# Altium footprint library ST Microcontroller 8-Bit.PcbLib: 97 footprints (part 2 of 7)
Each footprint in its own frame and in the unit in brackets; x right, y up, seen from the top. Pads: shape width x height; smd on the part's side, far side on the other; paste and mask are expansions set on the pad; w line width, h text height; cw(c..) or ccw(c..) is an arc to the next point about the centre after c.
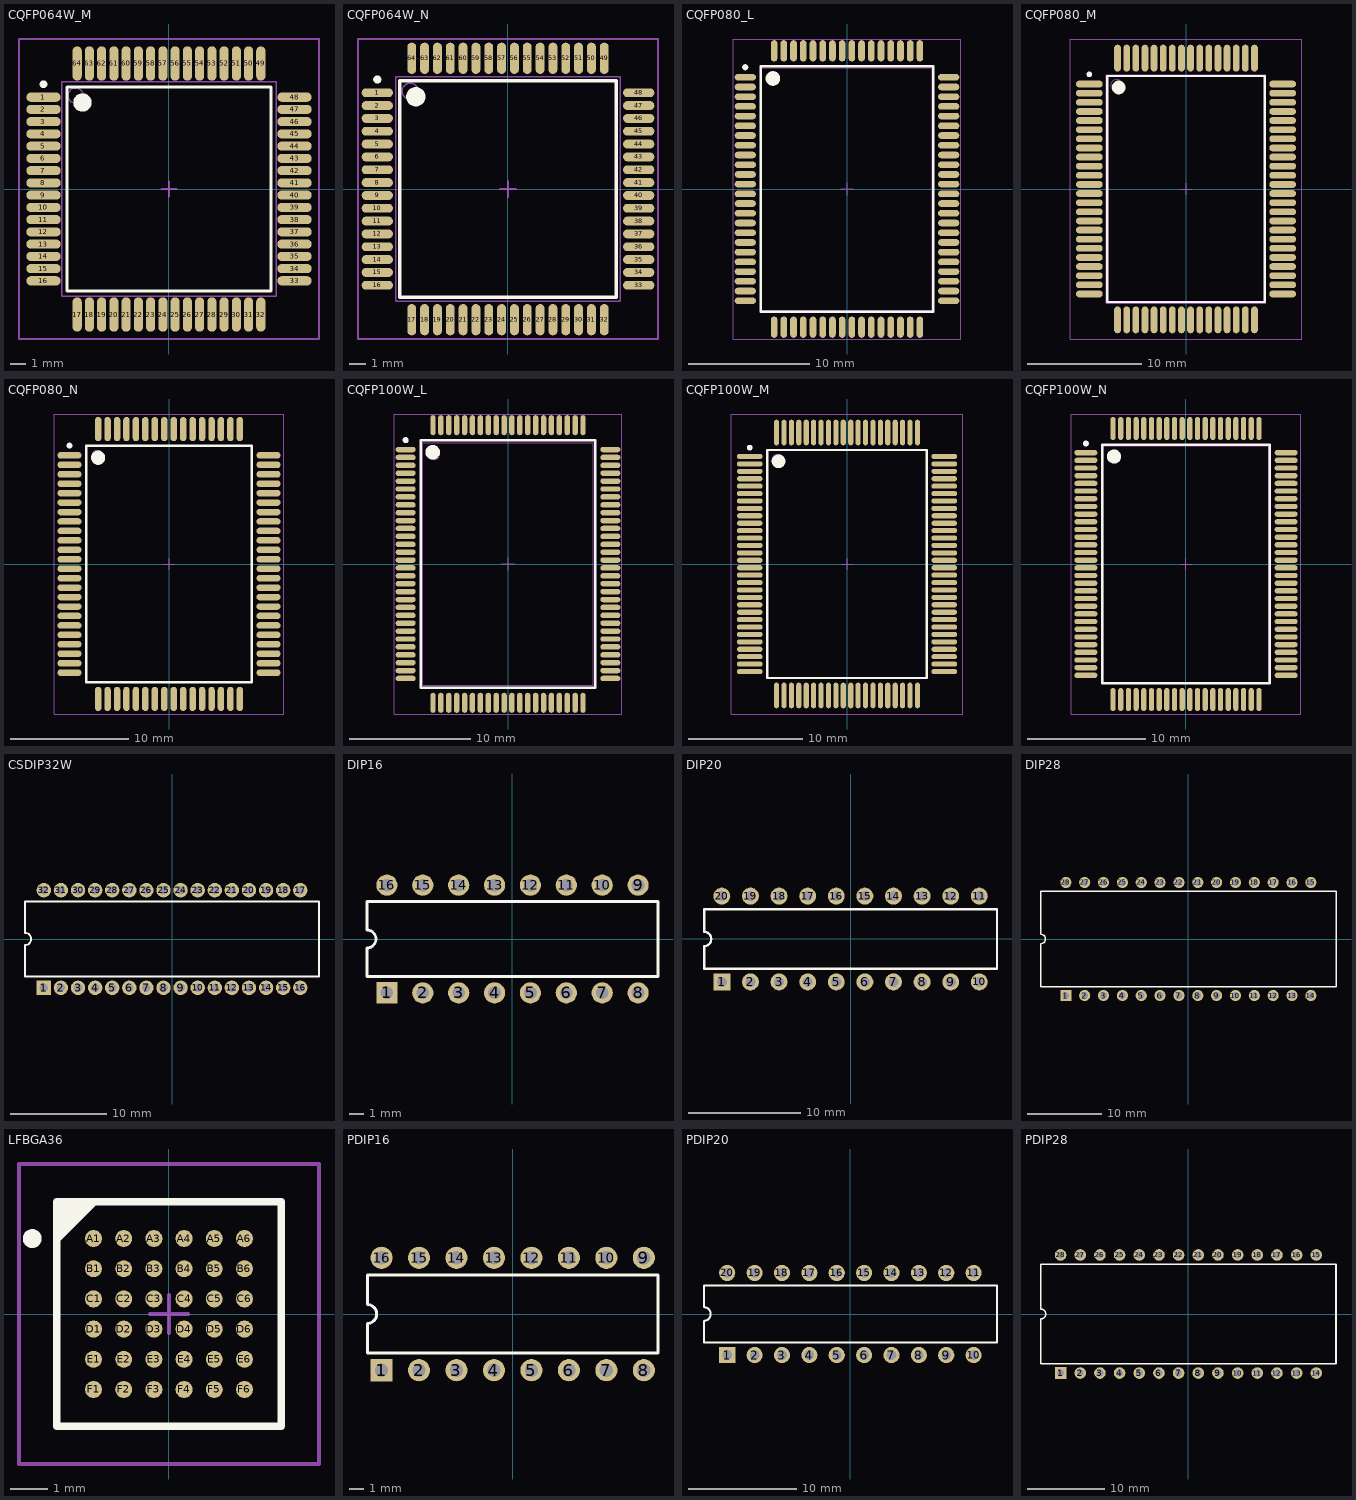
[diagram p1: the footprints below, top view; thin cyan lines are the x and y axes]

## CQFP064W_M [mm] "QFP, 64-Leads, Body 14x14mm, Pitch 0.8mm, IPC Low Density"
height 4.23
pads (64):
  oval 2.25x0.6 smd: 1(-8.2,6) 2(-8.2,5.2) 3(-8.2,4.4) 4(-8.2,3.6) 5(-8.2,2.8) 6(-8.2,2) 7(-8.2,1.2) 8(-8.2,0.4) 9(-8.2,-0.4) 10(-8.2,-1.2) 11(-8.2,-2) 12(-8.2,-2.8) 13(-8.2,-3.6) 14(-8.2,-4.4) 15(-8.2,-5.2) 16(-8.2,-6) 33(8.2,-6) 34(8.2,-5.2) 35(8.2,-4.4) 36(8.2,-3.6) 37(8.2,-2.8) 38(8.2,-2) 39(8.2,-1.2) 40(8.2,-0.4) 41(8.2,0.4) 42(8.2,1.2) 43(8.2,2) 44(8.2,2.8) 45(8.2,3.6) 46(8.2,4.4) 47(8.2,5.2) 48(8.2,6)
  oval 0.6x2.25 smd: 17(-6,-8.2) 18(-5.2,-8.2) 19(-4.4,-8.2) 20(-3.6,-8.2) 21(-2.8,-8.2) 22(-2,-8.2) 23(-1.2,-8.2) 24(-0.4,-8.2) 25(0.4,-8.2) 26(1.2,-8.2) 27(2,-8.2) 28(2.8,-8.2) 29(3.6,-8.2) 30(4.4,-8.2) 31(5.2,-8.2) 32(6,-8.2) 49(6,8.2) 50(5.2,8.2) 51(4.4,8.2) 52(3.6,8.2) 53(2.8,8.2) 54(2,8.2) 55(1.2,8.2) 56(0.4,8.2) 57(-0.4,8.2) 58(-1.2,8.2) 59(-2,8.2) 60(-2.8,8.2) 61(-3.6,8.2) 62(-4.4,8.2) 63(-5.2,8.2) 64(-6,8.2)
Top Overlay:
  circle w0.6: c-5.65,5.65 r0.3
  circle w0.25: c-8.2,6.85 r0.125
  lines w0.2: -6.65,-6.65 6.65,-6.65 6.65,6.65 -6.65,6.65 -6.65,-6.65
Mechanical 13:
  circle w0.1: c-6.1,6.1 r0.5
  lines w0.1: -7,-7 7,-7 7,7 -7,7 -7,-7
Mechanical 15:
  lines w0.1: -0.5,0 0.5,0 ; 0,-0.5 0,0.5 ; -9.8,-9.8 9.8,-9.8 9.8,9.8 -9.8,9.8 -9.8,-9.8
3D body: height 4.23, standoff 0, extent -7,-7 7,7

## CQFP064W_N [mm] "QFP, 64-Leads, Body 14x14mm, Pitch 0.8mm, IPC Medium Density"
height 4.23
pads (64):
  oval 1.95x0.55 smd: 1(-8.15,6) 2(-8.15,5.2) 3(-8.15,4.4) 4(-8.15,3.6) 5(-8.15,2.8) 6(-8.15,2) 7(-8.15,1.2) 8(-8.15,0.4) 9(-8.15,-0.4) 10(-8.15,-1.2) 11(-8.15,-2) 12(-8.15,-2.8) 13(-8.15,-3.6) 14(-8.15,-4.4) 15(-8.15,-5.2) 16(-8.15,-6) 33(8.15,-6) 34(8.15,-5.2) 35(8.15,-4.4) 36(8.15,-3.6) 37(8.15,-2.8) 38(8.15,-2) 39(8.15,-1.2) 40(8.15,-0.4) 41(8.15,0.4) 42(8.15,1.2) 43(8.15,2) 44(8.15,2.8) 45(8.15,3.6) 46(8.15,4.4) 47(8.15,5.2) 48(8.15,6)
  oval 0.55x1.95 smd: 17(-6,-8.15) 18(-5.2,-8.15) 19(-4.4,-8.15) 20(-3.6,-8.15) 21(-2.8,-8.15) 22(-2,-8.15) 23(-1.2,-8.15) 24(-0.4,-8.15) 25(0.4,-8.15) 26(1.2,-8.15) 27(2,-8.15) 28(2.8,-8.15) 29(3.6,-8.15) 30(4.4,-8.15) 31(5.2,-8.15) 32(6,-8.15) 49(6,8.15) 50(5.2,8.15) 51(4.4,8.15) 52(3.6,8.15) 53(2.8,8.15) 54(2,8.15) 55(1.2,8.15) 56(0.4,8.15) 57(-0.4,8.15) 58(-1.2,8.15) 59(-2,8.15) 60(-2.8,8.15) 61(-3.6,8.15) 62(-4.4,8.15) 63(-5.2,8.15) 64(-6,8.15)
Top Overlay:
  circle w0.6: c-5.75,5.75 r0.3
  circle w0.25: c-8.15,6.825 r0.125
  lines w0.2: -6.75,-6.75 6.75,-6.75 6.75,6.75 -6.75,6.75 -6.75,-6.75
Mechanical 13:
  circle w0.1: c-6.1,6.1 r0.5
  lines w0.1: -7,-7 7,-7 7,7 -7,7 -7,-7
Mechanical 15:
  lines w0.1: -0.5,0 0.5,0 ; 0,-0.5 0,0.5 ; -9.35,-9.35 9.35,-9.35 9.35,9.35 -9.35,9.35 -9.35,-9.35
3D body: height 4.23, standoff 0, extent -7,-7 7,7

## CQFP080_L [mm] "QFP, 80-Leads, Body 20x14mm, Pitch 0.8mm, IPC High Density"
height 4.3
pads (80):
  oval 1.75x0.55 smd: 1(-8.375,9.2) 2(-8.375,8.4) 3(-8.375,7.6) 4(-8.375,6.8) 5(-8.375,6) 6(-8.375,5.2) 7(-8.375,4.4) 8(-8.375,3.6) 9(-8.375,2.8) 10(-8.375,2) 11(-8.375,1.2) 12(-8.375,0.4) 13(-8.375,-0.4) 14(-8.375,-1.2) 15(-8.375,-2) 16(-8.375,-2.8) 17(-8.375,-3.6) 18(-8.375,-4.4) 19(-8.375,-5.2) 20(-8.375,-6) 21(-8.375,-6.8) 22(-8.375,-7.6) 23(-8.375,-8.4) 24(-8.375,-9.2) 41(8.375,-9.2) 42(8.375,-8.4) 43(8.375,-7.6) 44(8.375,-6.8) 45(8.375,-6) 46(8.375,-5.2) 47(8.375,-4.4) 48(8.375,-3.6) 49(8.375,-2.8) 50(8.375,-2) 51(8.375,-1.2) 52(8.375,-0.4) 53(8.375,0.4) 54(8.375,1.2) 55(8.375,2) 56(8.375,2.8) 57(8.375,3.6) 58(8.375,4.4) 59(8.375,5.2) 60(8.375,6) 61(8.375,6.8) 62(8.375,7.6) 63(8.375,8.4) 64(8.375,9.2)
  oval 0.55x1.75 smd: 25(-6,-11.375) 26(-5.2,-11.375) 27(-4.4,-11.375) 28(-3.6,-11.375) 29(-2.8,-11.375) 30(-2,-11.375) 31(-1.2,-11.375) 32(-0.4,-11.375) 33(0.4,-11.375) 34(1.2,-11.375) 35(2,-11.375) 36(2.8,-11.375) 37(3.6,-11.375) 38(4.4,-11.375) 39(5.2,-11.375) 40(6,-11.375) 65(6,11.375) 66(5.2,11.375) 67(4.4,11.375) 68(3.6,11.375) 69(2.8,11.375) 70(2,11.375) 71(1.2,11.375) 72(0.4,11.375) 73(-0.4,11.375) 74(-1.2,11.375) 75(-2,11.375) 76(-2.8,11.375) 77(-3.6,11.375) 78(-4.4,11.375) 79(-5.2,11.375) 80(-6,11.375)
Top Overlay:
  circle w0.6: c-6.1,9.1 r0.3
  circle w0.25: c-8.375,10.025 r0.125
  lines w0.2: -7.1,-10.1 7.1,-10.1 7.1,10.1 -7.1,10.1 -7.1,-10.1
Mechanical 13:
  circle w0.1: c-6.1,9.1 r0.5
  lines w0.1: -7,-10 7,-10 7,10 -7,10 -7,-10
Mechanical 15:
  lines w0.1: -0.5,0 0.5,0 ; 0,-0.5 0,0.5 ; -9.35,-12.35 9.35,-12.35 9.35,12.35 -9.35,12.35 -9.35,-12.35
3D body: height 4.3, standoff 0, extent -7,-10 7,10

## CQFP080_M [mm] "QFP, 80-Leads, Body 20x14mm, Pitch 0.8mm, IPC Low Density"
height 4.3
pads (80):
  oval 2.35x0.6 smd: 1(-8.475,9.2) 2(-8.475,8.4) 3(-8.475,7.6) 4(-8.475,6.8) 5(-8.475,6) 6(-8.475,5.2) 7(-8.475,4.4) 8(-8.475,3.6) 9(-8.475,2.8) 10(-8.475,2) 11(-8.475,1.2) 12(-8.475,0.4) 13(-8.475,-0.4) 14(-8.475,-1.2) 15(-8.475,-2) 16(-8.475,-2.8) 17(-8.475,-3.6) 18(-8.475,-4.4) 19(-8.475,-5.2) 20(-8.475,-6) 21(-8.475,-6.8) 22(-8.475,-7.6) 23(-8.475,-8.4) 24(-8.475,-9.2) 41(8.475,-9.2) 42(8.475,-8.4) 43(8.475,-7.6) 44(8.475,-6.8) 45(8.475,-6) 46(8.475,-5.2) 47(8.475,-4.4) 48(8.475,-3.6) 49(8.475,-2.8) 50(8.475,-2) 51(8.475,-1.2) 52(8.475,-0.4) 53(8.475,0.4) 54(8.475,1.2) 55(8.475,2) 56(8.475,2.8) 57(8.475,3.6) 58(8.475,4.4) 59(8.475,5.2) 60(8.475,6) 61(8.475,6.8) 62(8.475,7.6) 63(8.475,8.4) 64(8.475,9.2)
  oval 0.6x2.35 smd: 25(-6,-11.475) 26(-5.2,-11.475) 27(-4.4,-11.475) 28(-3.6,-11.475) 29(-2.8,-11.475) 30(-2,-11.475) 31(-1.2,-11.475) 32(-0.4,-11.475) 33(0.4,-11.475) 34(1.2,-11.475) 35(2,-11.475) 36(2.8,-11.475) 37(3.6,-11.475) 38(4.4,-11.475) 39(5.2,-11.475) 40(6,-11.475) 65(6,11.475) 66(5.2,11.475) 67(4.4,11.475) 68(3.6,11.475) 69(2.8,11.475) 70(2,11.475) 71(1.2,11.475) 72(0.4,11.475) 73(-0.4,11.475) 74(-1.2,11.475) 75(-2,11.475) 76(-2.8,11.475) 77(-3.6,11.475) 78(-4.4,11.475) 79(-5.2,11.475) 80(-6,11.475)
Top Overlay:
  circle w0.25: c-8.475,10.05 r0.125
  circle w0.6: c-5.9,8.9 r0.3
  lines w0.2: -6.9,-9.9 -6.9,9.9 6.9,9.9 6.9,-9.9 -6.9,-9.9
Mechanical 13:
  circle w0.1: c-6.1,9.1 r0.5
  lines w0.1: -7,-10 -7,10 7,10 7,-10 -7,-10
Mechanical 15:
  lines w0.1: -0.5,0 0.5,0 ; 0,-0.5 0,0.5 ; -10.15,-13.15 -10.15,13.15 10.15,13.15 10.15,-13.15 -10.15,-13.15
3D body: height 4.3, standoff 0, extent -7,-10 7,10

## CQFP080_N [mm] "QFP, 80-Leads, Body 20x14mm, Pitch 0.8mm, IPC Medium Density"
height 4.3
pads (80):
  oval 2.05x0.55 smd: 1(-8.425,9.2) 2(-8.425,8.4) 3(-8.425,7.6) 4(-8.425,6.8) 5(-8.425,6) 6(-8.425,5.2) 7(-8.425,4.4) 8(-8.425,3.6) 9(-8.425,2.8) 10(-8.425,2) 11(-8.425,1.2) 12(-8.425,0.4) 13(-8.425,-0.4) 14(-8.425,-1.2) 15(-8.425,-2) 16(-8.425,-2.8) 17(-8.425,-3.6) 18(-8.425,-4.4) 19(-8.425,-5.2) 20(-8.425,-6) 21(-8.425,-6.8) 22(-8.425,-7.6) 23(-8.425,-8.4) 24(-8.425,-9.2) 41(8.425,-9.2) 42(8.425,-8.4) 43(8.425,-7.6) 44(8.425,-6.8) 45(8.425,-6) 46(8.425,-5.2) 47(8.425,-4.4) 48(8.425,-3.6) 49(8.425,-2.8) 50(8.425,-2) 51(8.425,-1.2) 52(8.425,-0.4) 53(8.425,0.4) 54(8.425,1.2) 55(8.425,2) 56(8.425,2.8) 57(8.425,3.6) 58(8.425,4.4) 59(8.425,5.2) 60(8.425,6) 61(8.425,6.8) 62(8.425,7.6) 63(8.425,8.4) 64(8.425,9.2)
  oval 0.55x2.05 smd: 25(-6,-11.425) 26(-5.2,-11.425) 27(-4.4,-11.425) 28(-3.6,-11.425) 29(-2.8,-11.425) 30(-2,-11.425) 31(-1.2,-11.425) 32(-0.4,-11.425) 33(0.4,-11.425) 34(1.2,-11.425) 35(2,-11.425) 36(2.8,-11.425) 37(3.6,-11.425) 38(4.4,-11.425) 39(5.2,-11.425) 40(6,-11.425) 65(6,11.425) 66(5.2,11.425) 67(4.4,11.425) 68(3.6,11.425) 69(2.8,11.425) 70(2,11.425) 71(1.2,11.425) 72(0.4,11.425) 73(-0.4,11.425) 74(-1.2,11.425) 75(-2,11.425) 76(-2.8,11.425) 77(-3.6,11.425) 78(-4.4,11.425) 79(-5.2,11.425) 80(-6,11.425)
Top Overlay:
  circle w0.6: c-6,9 r0.3
  circle w0.25: c-8.425,10.025 r0.125
  lines w0.2: -7,-10 7,-10 7,10 -7,10 -7,-10
Mechanical 13:
  circle w0.1: c-6.1,9.1 r0.5
  lines w0.1: -7,-10 7,-10 7,10 -7,10 -7,-10
Mechanical 15:
  lines w0.1: -0.5,0 0.5,0 ; 0,-0.5 0,0.5 ; -9.7,-12.7 9.7,-12.7 9.7,12.7 -9.7,12.7 -9.7,-12.7
3D body: height 4.3, standoff 0, extent -7,-10 7,10

## CQFP100W_L [mm] "QFP, 100-Leads, Body 20x14mm, Pitch 0.65mm, IPC High Density"
height 3.24
pads (100):
  oval 1.65x0.45 smd: 1(-8.425,9.425) 2(-8.425,8.775) 3(-8.425,8.125) 4(-8.425,7.475) 5(-8.425,6.825) 6(-8.425,6.175) 7(-8.425,5.525) 8(-8.425,4.875) 9(-8.425,4.225) 10(-8.425,3.575) 11(-8.425,2.925) 12(-8.425,2.275) 13(-8.425,1.625) 14(-8.425,0.975) 15(-8.425,0.325) 16(-8.425,-0.325) 17(-8.425,-0.975) 18(-8.425,-1.625) 19(-8.425,-2.275) 20(-8.425,-2.925) 21(-8.425,-3.575) 22(-8.425,-4.225) 23(-8.425,-4.875) 24(-8.425,-5.525) 25(-8.425,-6.175) 26(-8.425,-6.825) 27(-8.425,-7.475) 28(-8.425,-8.125) 29(-8.425,-8.775) 30(-8.425,-9.425) 51(8.425,-9.425) 52(8.425,-8.775) 53(8.425,-8.125) 54(8.425,-7.475) 55(8.425,-6.825) 56(8.425,-6.175) 57(8.425,-5.525) 58(8.425,-4.875) 59(8.425,-4.225) 60(8.425,-3.575) 61(8.425,-2.925) 62(8.425,-2.275) 63(8.425,-1.625) 64(8.425,-0.975) 65(8.425,-0.325) 66(8.425,0.325) 67(8.425,0.975) 68(8.425,1.625) 69(8.425,2.275) 70(8.425,2.925) 71(8.425,3.575) 72(8.425,4.225) 73(8.425,4.875) 74(8.425,5.525) 75(8.425,6.175) 76(8.425,6.825) 77(8.425,7.475) 78(8.425,8.125) 79(8.425,8.775) 80(8.425,9.425)
  oval 0.45x1.65 smd: 31(-6.175,-11.425) 32(-5.525,-11.425) 33(-4.875,-11.425) 34(-4.225,-11.425) 35(-3.575,-11.425) 36(-2.925,-11.425) 37(-2.275,-11.425) 38(-1.625,-11.425) 39(-0.975,-11.425) 40(-0.325,-11.425) 41(0.325,-11.425) 42(0.975,-11.425) 43(1.625,-11.425) 44(2.275,-11.425) 45(2.925,-11.425) 46(3.575,-11.425) 47(4.225,-11.425) 48(4.875,-11.425) 49(5.525,-11.425) 50(6.175,-11.425) 81(6.175,11.425) 82(5.525,11.425) 83(4.875,11.425) 84(4.225,11.425) 85(3.575,11.425) 86(2.925,11.425) 87(2.275,11.425) 88(1.625,11.425) 89(0.975,11.425) 90(0.325,11.425) 91(-0.325,11.425) 92(-0.975,11.425) 93(-1.625,11.425) 94(-2.275,11.425) 95(-2.925,11.425) 96(-3.575,11.425) 97(-4.225,11.425) 98(-4.875,11.425) 99(-5.525,11.425) 100(-6.175,11.425)
Top Overlay:
  circle w0.6: c-6.2,9.2 r0.3
  circle w0.25: c-8.425,10.2 r0.125
  lines w0.2: -7.2,-10.2 7.2,-10.2 7.2,10.2 -7.2,10.2 -7.2,-10.2
Mechanical 13:
  circle w0.1: c-6.1,9.1 r0.5
  lines w0.1: -7,-10 7,-10 7,10 -7,10 -7,-10
Mechanical 15:
  lines w0.1: -0.5,0 0.5,0 ; 0,-0.5 0,0.5 ; -9.35,-12.35 9.35,-12.35 9.35,12.35 -9.35,12.35 -9.35,-12.35
3D body: height 3.24, standoff 0, extent -7,-10 7,10

## CQFP100W_M [mm] "QFP, 100-Leads, Body 20x14mm, Pitch 0.65mm, IPC Low Density"
height 3.24
pads (100):
  oval 2.25x0.45 smd: 1(-8.525,9.425) 2(-8.525,8.775) 3(-8.525,8.125) 4(-8.525,7.475) 5(-8.525,6.825) 6(-8.525,6.175) 7(-8.525,5.525) 8(-8.525,4.875) 9(-8.525,4.225) 10(-8.525,3.575) 11(-8.525,2.925) 12(-8.525,2.275) 13(-8.525,1.625) 14(-8.525,0.975) 15(-8.525,0.325) 16(-8.525,-0.325) 17(-8.525,-0.975) 18(-8.525,-1.625) 19(-8.525,-2.275) 20(-8.525,-2.925) 21(-8.525,-3.575) 22(-8.525,-4.225) 23(-8.525,-4.875) 24(-8.525,-5.525) 25(-8.525,-6.175) 26(-8.525,-6.825) 27(-8.525,-7.475) 28(-8.525,-8.125) 29(-8.525,-8.775) 30(-8.525,-9.425) 51(8.525,-9.425) 52(8.525,-8.775) 53(8.525,-8.125) 54(8.525,-7.475) 55(8.525,-6.825) 56(8.525,-6.175) 57(8.525,-5.525) 58(8.525,-4.875) 59(8.525,-4.225) 60(8.525,-3.575) 61(8.525,-2.925) 62(8.525,-2.275) 63(8.525,-1.625) 64(8.525,-0.975) 65(8.525,-0.325) 66(8.525,0.325) 67(8.525,0.975) 68(8.525,1.625) 69(8.525,2.275) 70(8.525,2.925) 71(8.525,3.575) 72(8.525,4.225) 73(8.525,4.875) 74(8.525,5.525) 75(8.525,6.175) 76(8.525,6.825) 77(8.525,7.475) 78(8.525,8.125) 79(8.525,8.775) 80(8.525,9.425)
  oval 0.45x2.25 smd: 31(-6.175,-11.525) 32(-5.525,-11.525) 33(-4.875,-11.525) 34(-4.225,-11.525) 35(-3.575,-11.525) 36(-2.925,-11.525) 37(-2.275,-11.525) 38(-1.625,-11.525) 39(-0.975,-11.525) 40(-0.325,-11.525) 41(0.325,-11.525) 42(0.975,-11.525) 43(1.625,-11.525) 44(2.275,-11.525) 45(2.925,-11.525) 46(3.575,-11.525) 47(4.225,-11.525) 48(4.875,-11.525) 49(5.525,-11.525) 50(6.175,-11.525) 81(6.175,11.525) 82(5.525,11.525) 83(4.875,11.525) 84(4.225,11.525) 85(3.575,11.525) 86(2.925,11.525) 87(2.275,11.525) 88(1.625,11.525) 89(0.975,11.525) 90(0.325,11.525) 91(-0.325,11.525) 92(-0.975,11.525) 93(-1.625,11.525) 94(-2.275,11.525) 95(-2.925,11.525) 96(-3.575,11.525) 97(-4.225,11.525) 98(-4.875,11.525) 99(-5.525,11.525) 100(-6.175,11.525)
Top Overlay:
  circle w0.25: c-8.525,10.2 r0.125
  circle w0.6: c-6,9 r0.3
  lines w0.2: -7,-10 -7,10 7,10 7,-10 -7,-10
Mechanical 13:
  circle w0.1: c-6.1,9.1 r0.5
  lines w0.1: -7,-10 -7,10 7,10 7,-10 -7,-10
Mechanical 15:
  lines w0.1: -0.5,0 0.5,0 ; 0,-0.5 0,0.5 ; -10.15,-13.15 -10.15,13.15 10.15,13.15 10.15,-13.15 -10.15,-13.15
3D body: height 3.24, standoff 0, extent -7,-10 7,10

## CQFP100W_N [mm] "QFP, 100-Leads, Body 20x14mm, Pitch 0.65mm, IPC Medium Density"
height 3.24
pads (100):
  oval 1.95x0.45 smd: 1(-8.475,9.425) 2(-8.475,8.775) 3(-8.475,8.125) 4(-8.475,7.475) 5(-8.475,6.825) 6(-8.475,6.175) 7(-8.475,5.525) 8(-8.475,4.875) 9(-8.475,4.225) 10(-8.475,3.575) 11(-8.475,2.925) 12(-8.475,2.275) 13(-8.475,1.625) 14(-8.475,0.975) 15(-8.475,0.325) 16(-8.475,-0.325) 17(-8.475,-0.975) 18(-8.475,-1.625) 19(-8.475,-2.275) 20(-8.475,-2.925) 21(-8.475,-3.575) 22(-8.475,-4.225) 23(-8.475,-4.875) 24(-8.475,-5.525) 25(-8.475,-6.175) 26(-8.475,-6.825) 27(-8.475,-7.475) 28(-8.475,-8.125) 29(-8.475,-8.775) 30(-8.475,-9.425) 51(8.475,-9.425) 52(8.475,-8.775) 53(8.475,-8.125) 54(8.475,-7.475) 55(8.475,-6.825) 56(8.475,-6.175) 57(8.475,-5.525) 58(8.475,-4.875) 59(8.475,-4.225) 60(8.475,-3.575) 61(8.475,-2.925) 62(8.475,-2.275) 63(8.475,-1.625) 64(8.475,-0.975) 65(8.475,-0.325) 66(8.475,0.325) 67(8.475,0.975) 68(8.475,1.625) 69(8.475,2.275) 70(8.475,2.925) 71(8.475,3.575) 72(8.475,4.225) 73(8.475,4.875) 74(8.475,5.525) 75(8.475,6.175) 76(8.475,6.825) 77(8.475,7.475) 78(8.475,8.125) 79(8.475,8.775) 80(8.475,9.425)
  oval 0.45x1.95 smd: 31(-6.175,-11.475) 32(-5.525,-11.475) 33(-4.875,-11.475) 34(-4.225,-11.475) 35(-3.575,-11.475) 36(-2.925,-11.475) 37(-2.275,-11.475) 38(-1.625,-11.475) 39(-0.975,-11.475) 40(-0.325,-11.475) 41(0.325,-11.475) 42(0.975,-11.475) 43(1.625,-11.475) 44(2.275,-11.475) 45(2.925,-11.475) 46(3.575,-11.475) 47(4.225,-11.475) 48(4.875,-11.475) 49(5.525,-11.475) 50(6.175,-11.475) 81(6.175,11.475) 82(5.525,11.475) 83(4.875,11.475) 84(4.225,11.475) 85(3.575,11.475) 86(2.925,11.475) 87(2.275,11.475) 88(1.625,11.475) 89(0.975,11.475) 90(0.325,11.475) 91(-0.325,11.475) 92(-0.975,11.475) 93(-1.625,11.475) 94(-2.275,11.475) 95(-2.925,11.475) 96(-3.575,11.475) 97(-4.225,11.475) 98(-4.875,11.475) 99(-5.525,11.475) 100(-6.175,11.475)
Top Overlay:
  circle w0.25: c-8.475,10.2 r0.125
  circle w0.6: c-6.1,9.1 r0.3
  lines w0.2: -7.1,-10.1 -7.1,10.1 7.1,10.1 7.1,-10.1 -7.1,-10.1
Mechanical 13:
  circle w0.1: c-6.1,9.1 r0.5
  lines w0.1: -7,-10 -7,10 7,10 7,-10 -7,-10
Mechanical 15:
  lines w0.1: -0.5,0 0.5,0 ; 0,-0.5 0,0.5 ; -9.7,-12.7 -9.7,12.7 9.7,12.7 9.7,-12.7 -9.7,-12.7
3D body: height 3.24, standoff 0, extent -7,-10 7,10

## CSDIP32W [mm] "DIP, Ceramic, Shrink; 32 Leads; Row Spacing 10.16 mm; Pitch 1.78 mm"
height 4.75
pads (32):
  rect 1.5x1.5 hole 0.9: 1(-13.35,-5.08)
  round 1.5 hole 0.9: 2(-11.57,-5.08) 3(-9.79,-5.08) 4(-8.01,-5.08) 5(-6.23,-5.08) 6(-4.45,-5.08) 7(-2.67,-5.08) 8(-0.89,-5.08) 9(0.89,-5.08) 10(2.67,-5.08) 11(4.45,-5.08) 12(6.23,-5.08) 13(8.01,-5.08) 14(9.79,-5.08) 15(11.57,-5.08) 16(13.35,-5.08) 17(13.35,5.08) 18(11.57,5.08) 19(9.79,5.08) 20(8.01,5.08) 21(6.23,5.08) 22(4.45,5.08) 23(2.67,5.08) 24(0.89,5.08) 25(-0.89,5.08) 26(-2.67,5.08) 27(-4.45,5.08) 28(-6.23,5.08) 29(-8.01,5.08) 30(-9.79,5.08) 31(-11.57,5.08) 32(-13.35,5.08)
Top Overlay:
  lines w0.2: -15.3,-3.9 -15.3,-0.635 ccw(c-15.3,0) -15.3,0.635 -15.3,3.9 15.3,3.9 15.3,-3.9 -15.3,-3.9

## DIP16 [mm] "DIP; 16 Leads; Row Spacing 7.62 mm; Pitch 2.54 mm"
height 5.1
pads (16):
  rect 1.5x1.5 hole 0.9: 1(-8.89,-3.81)
  round 1.5 hole 0.9: 2(-6.35,-3.81) 3(-3.81,-3.81) 4(-1.27,-3.81) 5(1.27,-3.81) 6(3.81,-3.81) 7(6.35,-3.81) 8(8.89,-3.81) 9(8.89,3.81) 10(6.35,3.81) 11(3.81,3.81) 12(1.27,3.81) 13(-1.27,3.81) 14(-3.81,3.81) 15(-6.35,3.81) 16(-8.89,3.81)
Top Overlay:
  lines w0.2: -10.3,-2.65 -10.3,-0.635 ccw(c-10.3,0) -10.3,0.635 -10.3,2.65 10.3,2.65 10.3,-2.65 -10.3,-2.65

## DIP20 [mm] "DIP; 20 Leads; Row Spacing 7.62 mm; Pitch 2.54 mm"
height 3.93
pads (20):
  rect 1.5x1.5 hole 0.9: 1(-11.43,-3.81)
  round 1.5 hole 0.9: 2(-8.89,-3.81) 3(-6.35,-3.81) 4(-3.81,-3.81) 5(-1.27,-3.81) 6(1.27,-3.81) 7(3.81,-3.81) 8(6.35,-3.81) 9(8.89,-3.81) 10(11.43,-3.81) 11(11.43,3.81) 12(8.89,3.81) 13(6.35,3.81) 14(3.81,3.81) 15(1.27,3.81) 16(-1.27,3.81) 17(-3.81,3.81) 18(-6.35,3.81) 19(-8.89,3.81) 20(-11.43,3.81)
Top Overlay:
  lines w0.2: -13,-2.65 -13,-0.635 ccw(c-13,0) -13,0.635 -13,2.65 13,2.65 13,-2.65 -13,-2.65

## DIP28 [mm] "DIP; 28 Leads; Row Spacing 15.24 mm; Pitch 2.54 mm"
height 6.35
pads (28):
  rect 1.5x1.5 hole 0.9: 1(-16.51,-7.62)
  round 1.5 hole 0.9: 2(-13.97,-7.62) 3(-11.43,-7.62) 4(-8.89,-7.62) 5(-6.35,-7.62) 6(-3.81,-7.62) 7(-1.27,-7.62) 8(1.27,-7.62) 9(3.81,-7.62) 10(6.35,-7.62) 11(8.89,-7.62) 12(11.43,-7.62) 13(13.97,-7.62) 14(16.51,-7.62) 15(16.51,7.62) 16(13.97,7.62) 17(11.43,7.62) 18(8.89,7.62) 19(6.35,7.62) 20(3.81,7.62) 21(1.27,7.62) 22(-1.27,7.62) 23(-3.81,7.62) 24(-6.35,7.62) 25(-8.89,7.62) 26(-11.43,7.62) 27(-13.97,7.62) 28(-16.51,7.62)
Top Overlay:
  lines w0.2: -19.9,-6.45 -19.9,-0.635 ccw(c-19.9,0) -19.9,0.635 -19.9,6.45 19.9,6.45 19.9,-6.45 -19.9,-6.45

## LFBGA36 [mm] "BGA, 36-Leads, Body 6x6mm, Pitch 0.8mm"
height 1.7
pads (36):
  round 0.45 smd: A1(-2,2) A2(-1.2,2) A3(-0.4,2) A4(0.4,2) A5(1.2,2) A6(2,2) B1(-2,1.2) B2(-1.2,1.2) B3(-0.4,1.2) B4(0.4,1.2) B5(1.2,1.2) B6(2,1.2) C1(-2,0.4) C2(-1.2,0.4) C3(-0.4,0.4) C4(0.4,0.4) C5(1.2,0.4) C6(2,0.4) D1(-2,-0.4) D2(-1.2,-0.4) D3(-0.4,-0.4) D4(0.4,-0.4) D5(1.2,-0.4) D6(2,-0.4) E1(-2,-1.2) E2(-1.2,-1.2) E3(-0.4,-1.2) E4(0.4,-1.2) E5(1.2,-1.2) E6(2,-1.2) F1(-2,-2) F2(-1.2,-2) F3(-0.4,-2) F4(0.4,-2) F5(1.2,-2) F6(2,-2)
Top Overlay:
  circle w0.25: c-3.625,2 r0.125
  region: -1.975,2.975 -2.975,1.975 -2.975,2.975
  lines w0.2: -2.975,1.975 -1.975,2.975 ; -2.975,-2.975 2.975,-2.975 2.975,2.975 -2.975,2.975 -2.975,-2.975
Mechanical 13:
  lines w0.1: -2.975,-2.975 2.975,-2.975 2.975,2.975 -2.975,2.975 -2.975,-2.975
Mechanical 15:
  lines w0.1: -0.5,0 0.5,0 ; 0,-0.5 0,0.5 ; -3.975,-3.975 3.975,-3.975 3.975,3.975 -3.975,3.975 -3.975,-3.975
3D body: height 1.7, standoff 0, extent -2.975,-2.975 2.975,2.975

## PDIP16 [mm] "DIP; 16 Leads; Row Spacing 7.62 mm; Pitch 2.54 mm"
height 5.33
pads (16):
  rect 1.5x1.5 hole 0.9: 1(-8.89,-3.81)
  round 1.5 hole 0.9: 2(-6.35,-3.81) 3(-3.81,-3.81) 4(-1.27,-3.81) 5(1.27,-3.81) 6(3.81,-3.81) 7(6.35,-3.81) 8(8.89,-3.81) 9(8.89,3.81) 10(6.35,3.81) 11(3.81,3.81) 12(1.27,3.81) 13(-1.27,3.81) 14(-3.81,3.81) 15(-6.35,3.81) 16(-8.89,3.81)
Top Overlay:
  lines w0.2: -9.85,-2.65 9.85,-2.65 9.85,2.65 -9.85,2.65 -9.85,0.635 cw(c-9.85,0) -9.85,-0.635 -9.85,-2.65

## PDIP20 [mm] "DIP; 20 Leads; Row Spacing 7.62 mm; Pitch 2.54 mm"
height 5.33
pads (20):
  rect 1.5x1.5 hole 0.9: 1(-11.43,-3.81)
  round 1.5 hole 0.9: 2(-8.89,-3.81) 3(-6.35,-3.81) 4(-3.81,-3.81) 5(-1.27,-3.81) 6(1.27,-3.81) 7(3.81,-3.81) 8(6.35,-3.81) 9(8.89,-3.81) 10(11.43,-3.81) 11(11.43,3.81) 12(8.89,3.81) 13(6.35,3.81) 14(3.81,3.81) 15(1.27,3.81) 16(-1.27,3.81) 17(-3.81,3.81) 18(-6.35,3.81) 19(-8.89,3.81) 20(-11.43,3.81)
Top Overlay:
  lines w0.2: -13.6,-2.65 13.6,-2.65 13.6,2.65 -13.6,2.65 -13.6,0.635 cw(c-13.6,0) -13.6,-0.635 -13.6,-2.65

## PDIP28 [mm] "DIP; 28 Leads; Row Spacing 15.24 mm; Pitch 2.54 mm"
height 5.08
pads (28):
  rect 1.5x1.5 hole 0.9: 1(-16.51,-7.62)
  round 1.5 hole 0.9: 2(-13.97,-7.62) 3(-11.43,-7.62) 4(-8.89,-7.62) 5(-6.35,-7.62) 6(-3.81,-7.62) 7(-1.27,-7.62) 8(1.27,-7.62) 9(3.81,-7.62) 10(6.35,-7.62) 11(8.89,-7.62) 12(11.43,-7.62) 13(13.97,-7.62) 14(16.51,-7.62) 15(16.51,7.62) 16(13.97,7.62) 17(11.43,7.62) 18(8.89,7.62) 19(6.35,7.62) 20(3.81,7.62) 21(1.27,7.62) 22(-1.27,7.62) 23(-3.81,7.62) 24(-6.35,7.62) 25(-8.89,7.62) 26(-11.43,7.62) 27(-13.97,7.62) 28(-16.51,7.62)
Top Overlay:
  lines w0.2: -19.05,-6.45 19.05,-6.45 19.05,6.45 -19.05,6.45 -19.05,0.635 cw(c-19.05,0) -19.05,-0.635 -19.05,-6.45